# Altium schematic symbol library Plus3VLDO.SchLib: 1 symbol
Pins are listed as number, name and electrical type; pins without a type are passive.

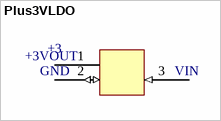
[diagram p0: symbol Plus3VLDO]

## Plus3VLDO
designator +3
footprint Plus3VLDO (Texas Instruments LP2950)
pins: 1 (power), 2 (io), 3 (in)
text: +3VOUT; GND; VIN